# Altium footprint library SnapEDApcb.PcbLib: 1 footprints
Each footprint in its own frame and in the unit in brackets; x right, y up, seen from the top. Pads: shape width x height; smd on the part's side, far side on the other; paste and mask are expansions set on the pad; w line width, h text height; cw(c..) or ccw(c..) is an arc to the next point about the centre after c.
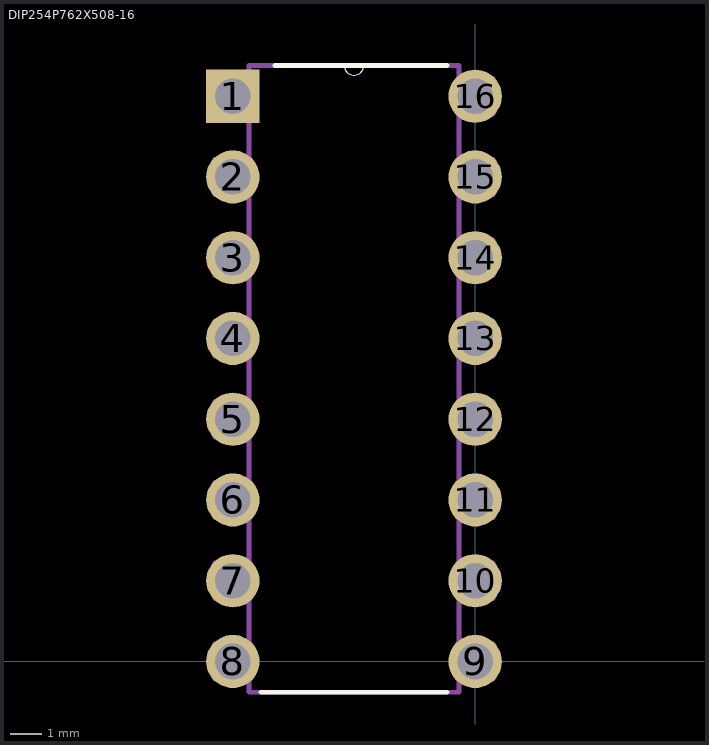
[diagram p0: the footprint, top view; thin cyan lines are the x and y axes]

## DIP254P762X508-16 [mil]
pads (16):
  rect 66x66 hole 44: 1(-300,700)
  round 66 hole 44: 2(-300,600) 3(-300,500) 4(-300,400) 5(-300,300) 6(-300,200) 7(-300,100) 8(-300,0) 9(0,0) 10(0,100) 11(0,200) 12(0,300) 13(0,400) 14(0,500) 15(0,600) 16(0,700)
Top Overlay:
  lines w0: -162,738 ccw(c-150,738) -138,738
  lines w6: -265,-38 -35,-38 ; -248,738 -162,738 -138,738 -35,738
Mechanical 13:
  lines w0: -162,738 ccw(c-150,738) -138,738
  lines w6: -322,-22 -322,22 -280,22 -280,-22 -322,-22 ; -322,78 -322,122 -280,122 -280,78 -322,78 ; -322,178 -322,222 -280,222 -280,178 -322,178 ; -322,278 -322,322 -280,322 -280,278 -322,278 ; -322,378 -322,422 -280,422 -280,378 -322,378 ; -322,478 -322,522 -280,522 -280,478 -322,478 ; -322,578 -322,622 -280,622 -280,578 -322,578 ; -322,678 -322,722 -280,722 -280,678 -322,678 ; -280,-38 -20,-38 -20,738 -138,738 -162,738 -280,738 -280,-38 ; -20,-22 -20,22 22,22 22,-22 -20,-22 ; -20,78 -20,122 22,122 22,78 -20,78 ; -20,178 -20,222 22,222 22,178 -20,178 ; -20,278 -20,322 22,322 22,278 -20,278 ; -20,378 -20,422 22,422 22,378 -20,378 ; -20,478 -20,522 22,522 22,478 -20,478 ; -20,578 -20,622 22,622 22,578 -20,578 ; -20,678 -20,722 22,722 22,678 -20,678